# EAGLE library part ICU (library bluepill)
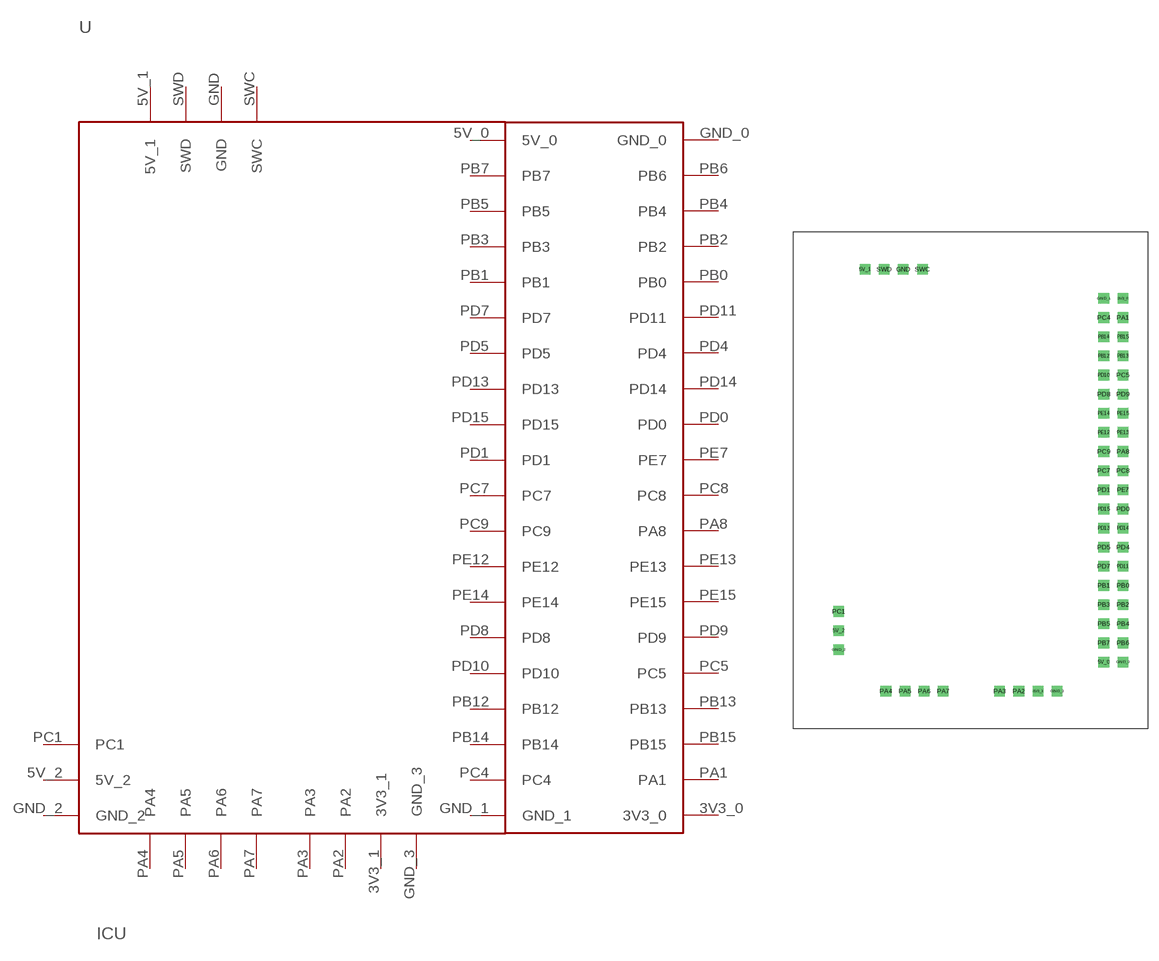
[diagram p5: symbol with the pads of ICU; footprint ICU]

Designator prefix -

## ICU  [ICU]
3V3_0  3V3_0
3V3_1  3V3_1
5V_0  5V_0
5V_1  5V_1
5V_2  5V_2
GND  GND
GND_0  GND_0
GND_1  GND_1
GND_2  GND_2
GND_3  GND_3
PA1  PA1
PA2  PA2
PA3  PA3
PA4  PA4
PA5  PA5
PA6  PA6
PA7  PA7
PA8  PA8
PB0  PB0
PB1  PB1
PB2  PB2
PB3  PB3
PB4  PB4
PB5  PB5
PB6  PB6
PB7  PB7
PB12  PB12
PB13  PB13
PB14  PB14
PB15  PB15
PC1  PC1
PC4  PC4
PC5  PC5
PC7  PC7
PC8  PC8
PC9  PC9
PD0  PD0
PD1  PD1
PD4  PD4
PD5  PD5
PD7  PD7
PD8  PD8
PD9  PD9
PD10  PD10
PD11  PD11
PD13  PD13
PD14  PD14
PD15  PD15
PE7  PE7
PE12  PE12
PE13  PE13
PE14  PE14
PE15  PE15
SWC  SWC
SWD  SWD

## Footprint ICU (pad centres in mm)
drill 0.9 square: 3V3_0 20.23,24.13; 3V3_1 8.96,-28; 5V_0 17.69,-24.13; 5V_1 -14,28; 5V_2 -17.5,-19.96; GND -8.92,28; GND_0 20.23,-24.13; GND_1 17.69,24.13; GND_2 -17.5,-22.5; GND_3 11.5,-28; PA1 20.23,21.59; PA2 6.42,-28; PA3 3.88,-28; PA4 -11.24,-28; PA5 -8.7,-28; PA6 -6.16,-28; PA7 -3.62,-28; PA8 20.23,3.81; PB0 20.23,-13.97; PB1 17.69,-13.97; PB2 20.23,-16.51; PB3 17.69,-16.51; PB4 20.23,-19.05; PB5 17.69,-19.05; PB6 20.23,-21.59; PB7 17.69,-21.59; PB12 17.69,16.51; PB13 20.23,16.51; PB14 17.69,19.05; PB15 20.23,19.05; PC1 -17.5,-17.42; PC4 17.69,21.59; PC5 20.23,13.97; PC7 17.69,1.27; PC8 20.23,1.27; PC9 17.69,3.81; PD0 20.23,-3.81; PD1 17.69,-1.27; PD4 20.23,-8.89; PD5 17.69,-8.89; PD7 17.69,-11.43; PD8 17.69,11.43; PD9 20.23,11.43; PD10 17.69,13.97; PD11 20.23,-11.43; PD13 17.69,-6.35; PD14 20.23,-6.35; PD15 17.69,-3.81; PE7 20.23,-1.27; PE12 17.69,6.35; PE13 20.23,6.35; PE14 17.69,8.89; PE15 20.23,8.89; SWC -6.38,28; SWD -11.46,28